# EAGLE library part TPS5420 (library power)
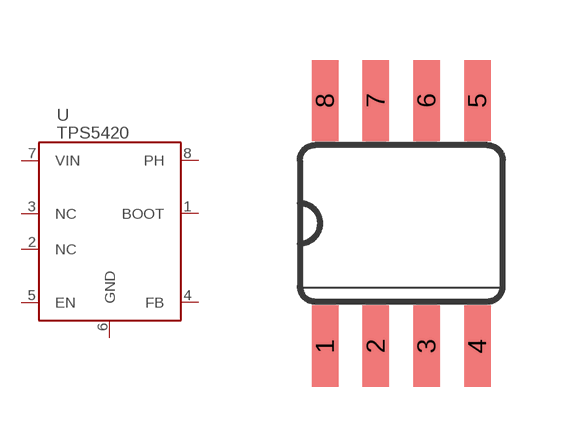
[diagram p0: symbol with the pads of SOIC08; footprint SOIC08]

Designator prefix -

## TPS5420  [SOIC08]
1  BOOT
2  NC  pas
3  NC  pas
4  FB
5  EN
6  GND  pwr
7  VIN  pwr
8  PH  pwr

## Footprint SOIC08 (pad centres in mm)
Small Outline Package
smd 0.66 x 2.032: 1 -1.905,-3.073; 2 -0.635,-3.073; 3 0.635,-3.073; 4 1.905,-3.073; 5 1.905,3.073; 6 0.635,3.073; 7 -0.635,3.073; 8 -1.905,3.073